# Altium footprint library SMC.PcbLib: 1 footprints
Each footprint in its own frame and in the unit in brackets; x right, y up, seen from the top. Pads: shape width x height; smd on the part's side, far side on the other; paste and mask are expansions set on the pad; w line width, h text height; cw(c..) or ccw(c..) is an arc to the next point about the centre after c.
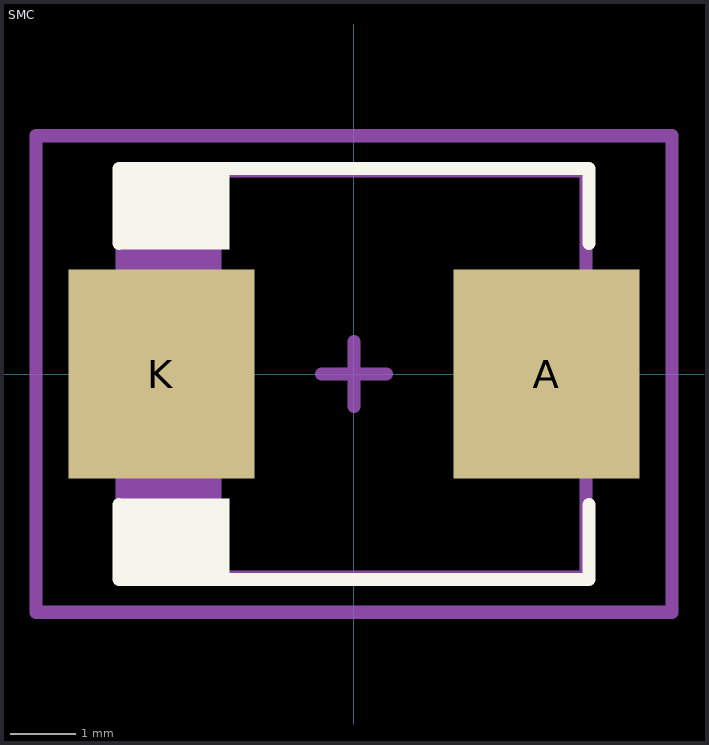
[diagram p0: the footprint, top view; thin cyan lines are the x and y axes]

## SMC [mm] "Molded Diode, 2-Leads, Body 6,9x5,9mm, IPC Low Density"
height 1.8
pads (2):
  rect 2.85x3.2 smd: A(2.95,0) K(-2.95,0)
Top Overlay:
  rectangle: -3.6,1.905 -1.905,3.15
  rectangle: -3.556,-3.15 -1.905,-1.905
  lines w0.2: -3.6,-2 -3.6,-3.15 3.6,-3.15 3.6,-2 ; -3.6,2 -3.6,3.15 3.6,3.15 3.6,2
Mechanical 13:
  rectangle: -3.555,-3.11 -2.032,3.11
  lines w0.2: -3.555,-3.11 -3.555,3.11 3.555,3.11 3.555,-3.11 -3.555,-3.11
  text ".Designator" at 0.508,-2.54 h1.5
Mechanical 15:
  lines w0.2: -0.5,0 0.5,0 ; 0,-0.5 0,0.5 ; -4.875,-3.65 -4.875,3.65 4.875,3.65 4.875,-3.65 -4.875,-3.65
3D body: height 2.3, standoff 0, extent -3.975,-2.95 3.975,2.95